# EAGLE library part SCD41-D-R1 (library SCD41)
SCD41 is a CO2 sensor that supports I2C communication and can read 400ppm to 5000ppm
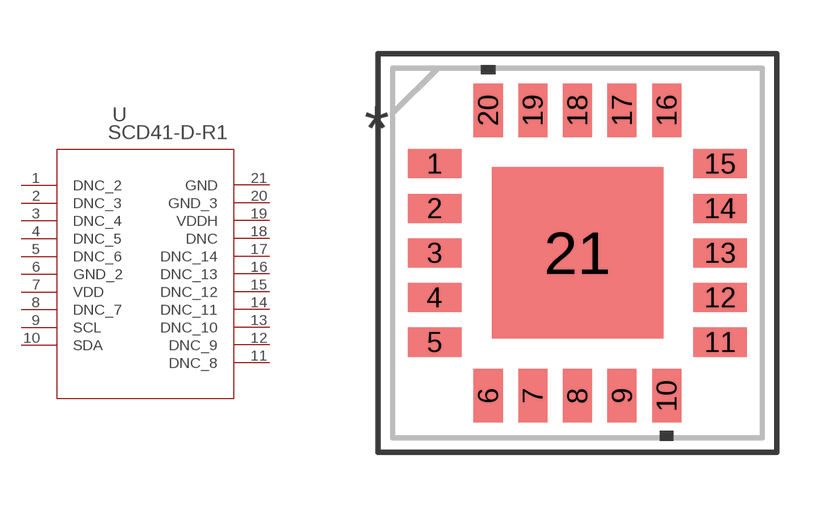
[diagram p0: symbol with the pads of SCD41-D-R1_SEN; footprint SCD41-D-R1_SEN]

Designator prefix U

## SCD41-D-R1 (COPYRIGHT: Copyright (C) 2024 Ultra Librarian. All rights reserved.; MANUFACTURER_PART_NUMBER: SCD41-D-R1; MFR_NAME: Sensirion)  [SCD41-D-R1_SEN]
1  DNC_2  nc
2  DNC_3  nc
3  DNC_4  nc
4  DNC_5  nc
5  DNC_6  nc
6  GND_2  pas
7  VDD  pwr
8  DNC_7  nc
9  SCL  in
10  SDA
11  DNC_8  nc
12  DNC_9  nc
13  DNC_10  nc
14  DNC_11  nc
15  DNC_12  nc
16  DNC_13  nc
17  DNC_14  nc
18  DNC  nc
19  VDDH  pwr
20  GND_3  pas
21  GND  pas

## Footprint SCD41-D-R1_SEN (pad centres in mm)
smd 1.499 x 0.813: 1 -4,2.5; 2 -4,1.25; 3 -4,0; 4 -4,-1.25; 5 -4,-2.5; 11 4,-2.5; 12 4,-1.25; 13 4,0; 14 4,1.25; 15 4,2.5
smd 0.813 x 1.499: 6 -2.5,-4; 7 -1.25,-4; 8 0,-4; 9 1.25,-4; 10 2.5,-4; 16 2.5,4; 17 1.25,4; 18 0,4; 19 -1.25,4; 20 -2.5,4
smd 4.801 x 4.801: 21 0,0